# Altium schematic symbol library TMUX1108PWR.SchLib: 1 symbol
Pins are listed as number, name and electrical type; pins without a type are passive.

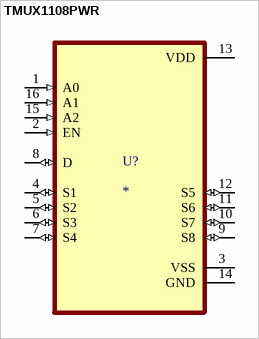
[diagram p0: symbol TMUX1108PWR]

## TMUX1108PWR
designator U?
MF: {'manufacturer': u'Texas Instruments'}; MP: TMUX1108PWR; Value: *; Price: None; Availability: Unavailable; Package: None
footprint SOP65P640X120-16N
pins: 1 A0 (in), 2 EN (in), 3 VSS (power), 4 S1 (io), 5 S2 (io), 6 S3 (io), 7 S4 (io), 8 D (io), 9 S8 (io), 10 S7 (io), 11 S6 (io), 12 S5 (io), 13 VDD (power), 14 GND (power), 15 A2 (in), 16 A1 (in)